# EAGLE library part IMU (library BB8)
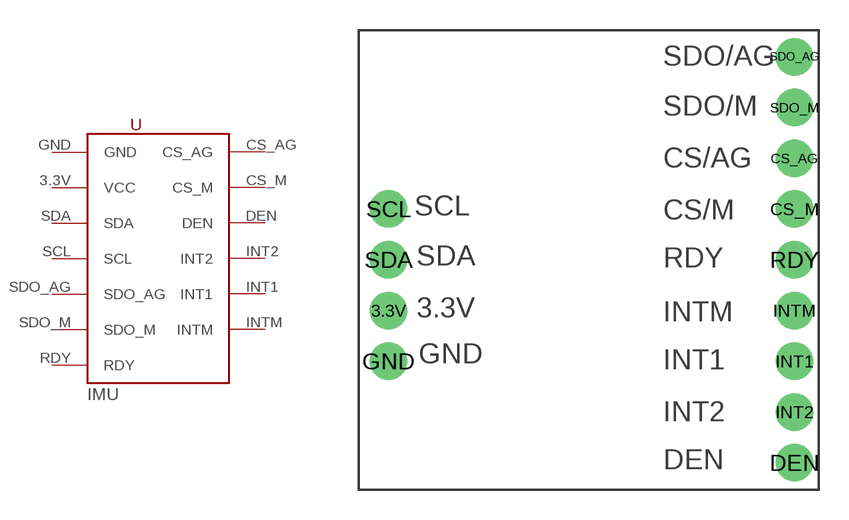
[diagram p14: symbol with the pads of IMU_BREAKOUT; footprint IMU_BREAKOUT]

Designator prefix U

## IMU  [IMU_BREAKOUT]
3.3V  VCC
CS_AG  CS_AG
CS_M  CS_M
DEN  DEN
GND  GND
INT1  INT1
INT2  INT2
INTM  INTM
RDY  RDY
SCL  SCL
SDA  SDA
SDO_AG  SDO_AG
SDO_M  SDO_M

## Footprint IMU_BREAKOUT (pad centres in mm)
drill 1.016 pad 1.88: 3.3V -10.16,-2.54; CS_AG 10.14,5.08; CS_M 10.14,2.54; DEN 10.14,-10.16; GND -10.16,-5.08; INT1 10.14,-5.08; INT2 10.14,-7.62; INTM 10.14,-2.54; RDY 10.14,0; SCL -10.16,2.54; SDA -10.16,0; SDO_AG 10.14,10.16; SDO_M 10.14,7.62